# Altium schematic symbol library SC16IS752.SchLib: 1 symbol
Pins are listed as number, name and electrical type; pins without a type are passive.

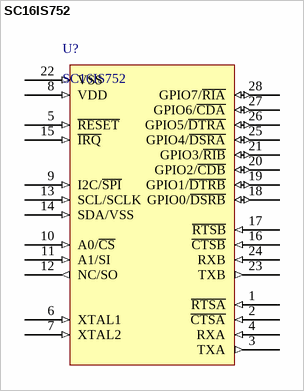
[diagram p0: symbol SC16IS752]

## SC16IS752
designator U?
footprint TSSOP28
pins: 1 ~{RTSA} (in), 2 ~{CTSA} (in), 3 TXA (out), 4 RXA (in), 5 ~{RESET} (in), 6 XTAL1 (in), 7 XTAL2 (in), 8 VDD (in), 9 I2C/~{SPI} (in), 10 A0/~{CS} (in), 11 A1/SI (in), 12 NC/SO (out), 13 SCL/SCLK (in), 14 SDA/VSS (in), 15 ~{IRQ} (in), 16 ~{CTSB} (in), 17 ~{RTSB} (in), 18 GPIO0/~{DSRB} (io), 19 GPIO1/~{DTRB} (io), 20 GPIO2/~{CDB} (io), 21 GPIO3/~{RIB} (io), 22 VSS (in), 23 TXB (out), 24 RXB (in), 25 GPIO4/~{DSRA} (io), 26 GPIO5/~{DTRA} (io), 27 GPIO6/~{CDA} (io), 28 GPIO7/~{RIA} (io)